# EAGLE library part AD734 (library 1A-meinLib)
10MHz, 4-Quadrant Multipier / Divider, Analog Device
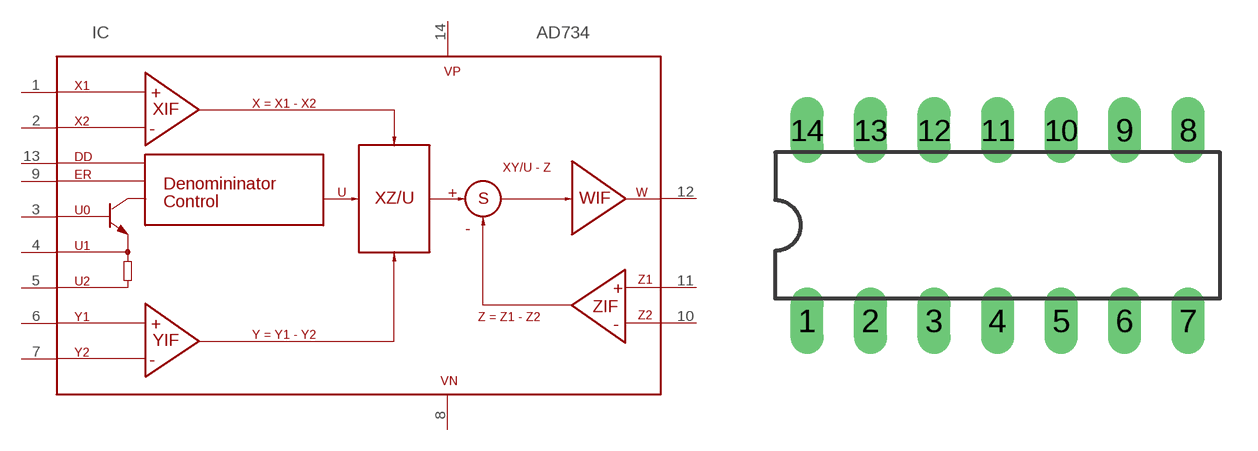
[diagram p183: symbol with the pads of DIL14; footprint DIL14]

Designator prefix IC

## AD734  [DIL14]
1  X1  in
2  X2  in
3  U0  in
4  U1  pas
5  U2  pas
6  Y1  in
7  Y2  in
8  VN  pas
9  ER  pas
10  Z2  in
11  Z1  in
12  W  out
13  DD  in
14  VP  pas

## Footprint DIL14 (pad centres in mm)
Dual In Line Package
drill 0.813 long: 1 -7.62,-3.81; 2 -5.08,-3.81; 3 -2.54,-3.81; 4 0,-3.81; 5 2.54,-3.81; 6 5.08,-3.81; 7 7.62,-3.81; 8 7.62,3.81; 9 5.08,3.81; 10 2.54,3.81; 11 0,3.81; 12 -2.54,3.81; 13 -5.08,3.81; 14 -7.62,3.81